# Altium schematic symbol library TPSD107K010R0050.SchLib: 1 symbol
Pins are listed as number, name and electrical type; pins without a type are passive.

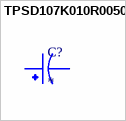
[diagram p0: symbol TPSD107K010R0050]

## TPSD107K010R0050
designator C?
Cap Tant Solid 100uF 10V D CASE 10% (7.3 X 4.3 X 2.9mm) Inward L SMD 7343-31 0.05 Ohm 125C T/R; MF: AVX; MP: TPSD107K010R0050; Purchase-URL: https://pricing.snapeda.com/search/part/TPSD107K010R0050/?ref=eda; Value: *; Availability: In Stock; Package: 2917 AVX; SnapEDA_Link: https://www.snapeda.com/parts/TPSD107K010R0050/AVX/view-part/?ref=snap; Check_prices: https://www.snapeda.com/parts/TPSD107K010R0050/AVX/view-part/?ref=eda; Price: None
footprint CAPPM7343X310N
pins: 1, 2